# EAGLE library part MFRC522 (library IBe-9102-lib)
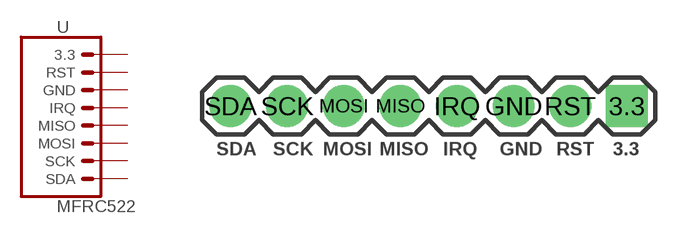
[diagram p9: symbol with the pads of MFRC522; footprint MFRC522]

Designator prefix -

## MFRC522  [MFRC522]
3.3  3.3  pas
GND  GND  pas
IRQ  IRQ  pas
MISO  MISO  pas
MOSI  MOSI  pas
RST  RST  pas
SCK  SCK  pas
SDA  SDA  pas

## Footprint MFRC522 (pad centres in mm)
Plated Through Hole -8 Pin Specifications: Pin count:8 Pin pitch:0.1" Example device(s): CONN_08
drill 1.016 pad 1.88 square: 3.3 0,0
drill 1.016 pad 1.88: GND -5.08,0; IRQ -7.62,0; MISO -10.16,0; MOSI -12.7,0; RST -2.54,0; SCK -15.24,0; SDA -17.78,0